# EAGLE library part DRV8833 (library CEDT_JANUARY_2015_v6)
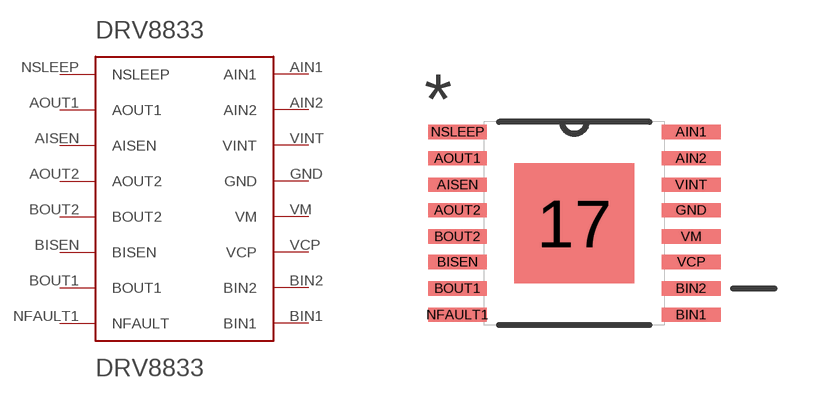
[diagram p88: symbol with the pads of DRV8833; footprint DRV8833]

Designator prefix -

## DRV8833  [DRV8833]
AIN1  AIN1
AIN2  AIN2
AISEN  AISEN
AOUT1  AOUT1
AOUT2  AOUT2
BIN1  BIN1
BIN2  BIN2
BISEN  BISEN
BOUT1  BOUT1
BOUT2  BOUT2
GND  GND
NFAULT1  NFAULT
NSLEEP  NSLEEP
VCP  VCP
VINT  VINT
VM  VM

## Footprint DRV8833 (pad centres in mm)
smd 2.997 x 2.997: 17 0,0
smd 1.473 x 0.356: AIN1 2.921,2.286; AIN2 2.921,1.626; AISEN -2.921,0.965; AOUT1 -2.921,1.626; AOUT2 -2.921,0.33; BIN1 2.921,-2.286; BIN2 2.921,-1.626; BISEN -2.921,-0.965; BOUT1 -2.921,-1.626; BOUT2 -2.921,-0.33; GND 2.921,0.33; NFAULT1 -2.921,-2.286; NSLEEP -2.921,2.286; VCP 2.921,-0.965; VINT 2.921,0.965; VM 2.921,-0.33